# Altium schematic symbol library Schlib1.SchLib: 3 symbols
Pins are listed as number, name and electrical type; pins without a type are passive.

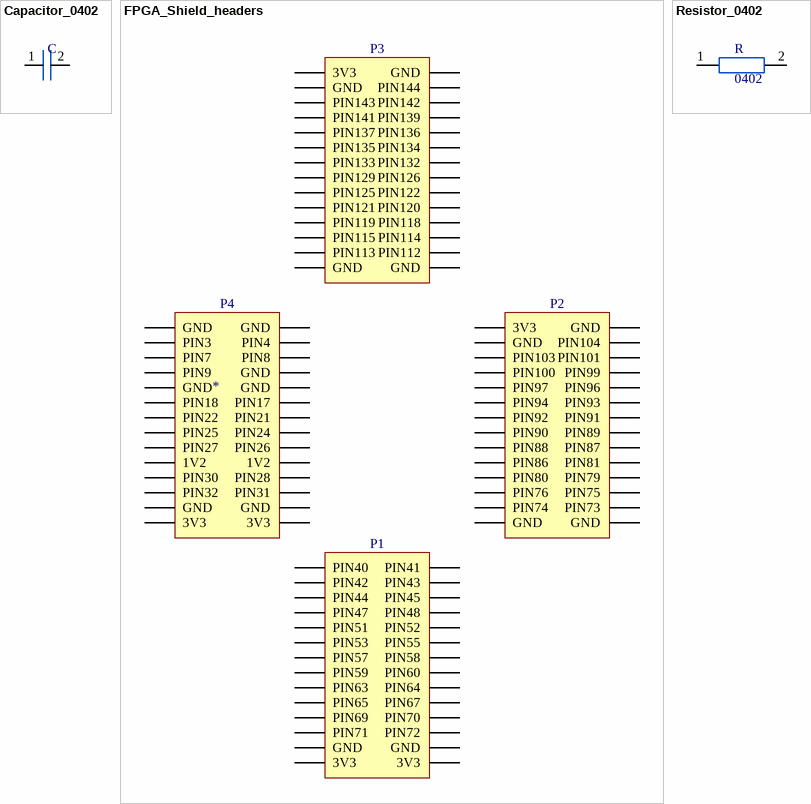
[diagram p0: symbols Capacitor_0402 to Resistor_0402]

## Capacitor_0402
designator C
0402 capacitor
footprint 0402_footprint
pins: 1, 2

## FPGA_Shield_headers
designator ?
footprint FPGA_SHIELD_HEADER_FOOTPRINT
pins: 1 GND, 2 GND, 3 PIN3, 4 PIN4, 5 PIN7, 6 PIN8, 7 PIN9, 8 GND, 9 GND, 10 GND, 11 PIN18, 12 PIN17, 13 PIN22, 14 PIN21, 15 PIN25, 16 PIN24, 17 PIN27, 18 PIN26, 19 1V2, 20 1V2, 21 PIN30, 22 PIN28, 23 PIN32, 24 PIN31, 25 GND, 26 GND, 27 3V3, 28 3V3, 29 3V3, 30 GND, 31 GND, 32 PIN144, 33 PIN143, 34 PIN142, 35 PIN141, 36 PIN139, 37 PIN137, 38 PIN136, 39 PIN135, 40 PIN134, 41 PIN133, 42 PIN132, 43 PIN129, 44 PIN126, 45 PIN125, 46 PIN122, 47 PIN121, 48 PIN120, 49 PIN119, 50 PIN118, 51 PIN115, 52 PIN114, 53 PIN113, 54 PIN112, 55 GND, 56 GND, 57 3V3, 58 GND, 59 GND, 60 PIN104, 61 PIN103, 62 PIN101, 63 PIN100, 64 PIN99, 65 PIN97, 66 PIN96, 67 PIN94, 68 PIN93, 69 PIN92, 70 PIN91, 71 PIN90, 72 PIN89, 73 PIN88, 74 PIN87, 75 PIN86, 76 PIN81, 77 PIN80, 78 PIN79, 79 PIN76, 80 PIN75, 81 PIN74, 82 PIN73, 83 GND, 84 GND, 85 PIN40, 86 PIN41, 87 PIN42, 88 PIN43, 89 PIN44, 90 PIN45, 91 PIN47, 92 PIN48, 93 PIN51, 94 PIN52, 95 PIN53, 96 PIN55, 97 PIN57, 98 PIN58, 99 PIN59, 100 PIN60, 101 PIN63, 102 PIN64, 103 PIN65, 104 PIN67, 105 PIN69, 106 PIN70, 107 PIN71, 108 PIN72, 109 GND, 110 GND, 111 3V3, 112 3V3
text: P3; P4; P2; P1

## Resistor_0402
designator R, comment 0402
0402 resistor
footprint 0402_footprint
pins: 1, 2